# EAGLE library part SS22E01G5-HA-G (library SS22E01G5-HA-G)
slide switch 0.5A 50VDC DPDT Source: Datasheet <https://akizukidenshi.com/download/ds/switronic/SS22E01G5-HA-G.PDF>
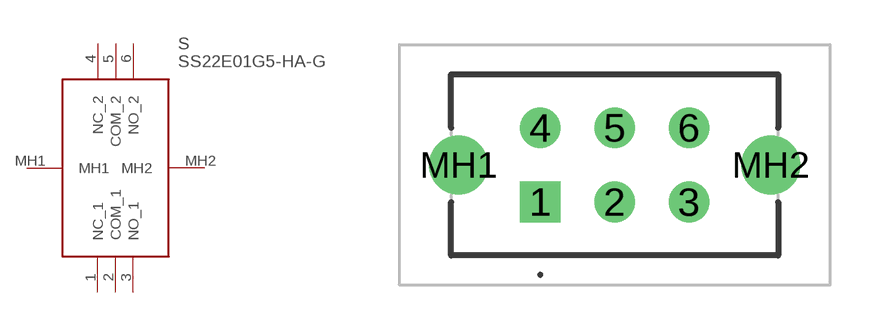
[diagram p0: symbol with the pads of SS22E01G5HAG; footprint SS22E01G5HAG]

Designator prefix S

## SS22E01G5-HA-G (Description: slide switch 0.5A 50VDC DPDT; Height: 10.5mm; Manufacturer_Name: Switronic; Manufacturer_Part_Number: SS22E01G5-HA-G)  [SS22E01G5HAG]
1  NC_1
2  COM_1
3  NO_1
4  NC_2
5  COM_2
6  NO_2
MH1  MH1
MH2  MH2

## Footprint SS22E01G5HAG (pad centres in mm)
SS22E01G5-HA-G-3
drill 0.84 pad 1.365 square: 1 0,0
drill 0.84 pad 1.365: 2 2.5,0; 3 5,0; 4 0,2.5; 5 2.5,2.5; 6 5,2.5
drill 1.32 pad 1.98: MH1 -2.75,1.25; MH2 7.75,1.25